# Altium footprint library CONN-SPE_MiniPCI-mSATA_MOLEX_67910-0002.PcbLib: 1 footprints
Each footprint in its own frame and in the unit in brackets; x right, y up, seen from the top. Pads: shape width x height; smd on the part's side, far side on the other; paste and mask are expansions set on the pad; w line width, h text height; cw(c..) or ccw(c..) is an arc to the next point about the centre after c.
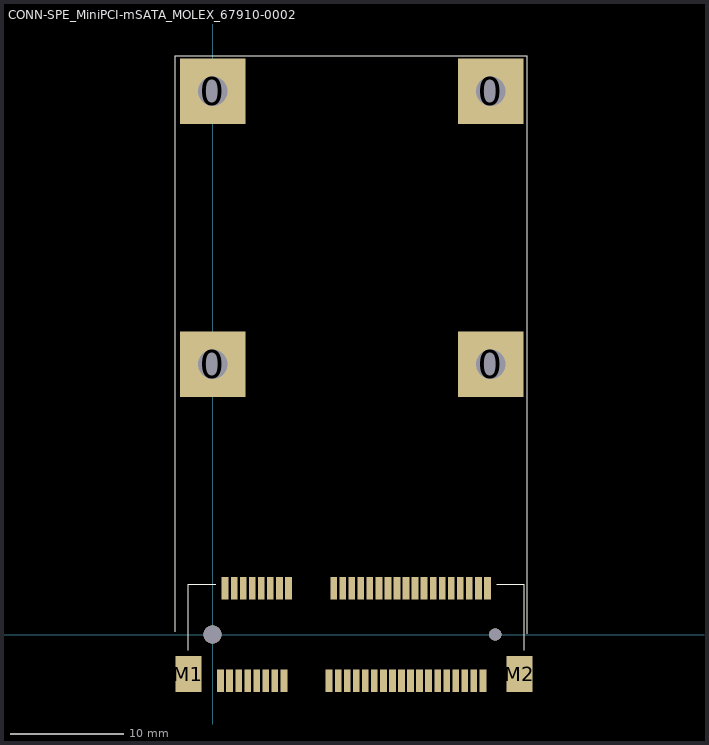
[diagram p0: the footprint, top view; thin cyan lines are the x and y axes]

## CONN-SPE_MiniPCI-mSATA_MOLEX_67910-0002 [mm]
pads (58):
  rect 5.8x5.8 hole 2.6: 0(0,23.9) 0(0,48.05) 0(24.6,23.9) 0(24.6,48.05)
  rect 0.6x2 smd: 1(0.7,-4.1) 2(1.1,4.1) 3(1.5,-4.1) 4(1.9,4.1) 5(2.3,-4.1) 6(2.7,4.1) 7(3.1,-4.1) 8(3.5,4.1) 9(3.9,-4.1) 10(4.3,4.1) 11(4.7,-4.1) 12(5.1,4.1) 13(5.5,-4.1) 14(5.9,4.1) 15(6.3,-4.1) 16(6.7,4.1) 17(10.3,-4.1) 18(10.7,4.1) 19(11.1,-4.1) 20(11.5,4.1) 21(11.9,-4.1) 22(12.3,4.1) 23(12.7,-4.1) 24(13.1,4.1) 25(13.5,-4.1) 26(13.9,4.1) 27(14.3,-4.1) 28(14.7,4.1) 29(15.1,-4.1) 30(15.5,4.1) 31(15.9,-4.1) 32(16.3,4.1) 33(16.7,-4.1) 34(17.1,4.1) 35(17.5,-4.1) 36(17.9,4.1) 37(18.3,-4.1) 38(18.7,4.1) 39(19.1,-4.1) 40(19.5,4.1) 41(19.9,-4.1) 42(20.3,4.1) 43(20.7,-4.1) 44(21.1,4.1) 45(21.5,-4.1) 46(21.9,4.1) 47(22.3,-4.1) 48(22.7,4.1) 49(23.1,-4.1) 50(23.5,4.1) 51(23.9,-4.1) 52(24.3,4.1)
  rect 2.3x3.2 smd: M1(-2.15,-3.5) M2(27.15,-3.5)
via 0,0 diameter 1.6 hole 1.6
via 25,0 diameter 1.1 hole 1.1
Top Overlay:
  lines w0.1: -3.302,0.231 -3.302,51.181 27.813,51.181 27.813,0.06 ; -2.159,-1.397 -2.159,4.445 0.254,4.445 ; 25.146,4.445 27.559,4.445 27.559,-1.397
3D body: height 4, standoff 0, extent -2.413,-5.461 27.305,4.445
3D body: height 5.4, standoff 0.65, extent -2.695,-0.075 27.305,50.875